# Altium footprint library SM_SUPERSOT-6.PcbLib: 1 footprints
Each footprint in its own frame and in the unit in brackets; x right, y up, seen from the top. Pads: shape width x height; smd on the part's side, far side on the other; paste and mask are expansions set on the pad; w line width, h text height; cw(c..) or ccw(c..) is an arc to the next point about the centre after c.
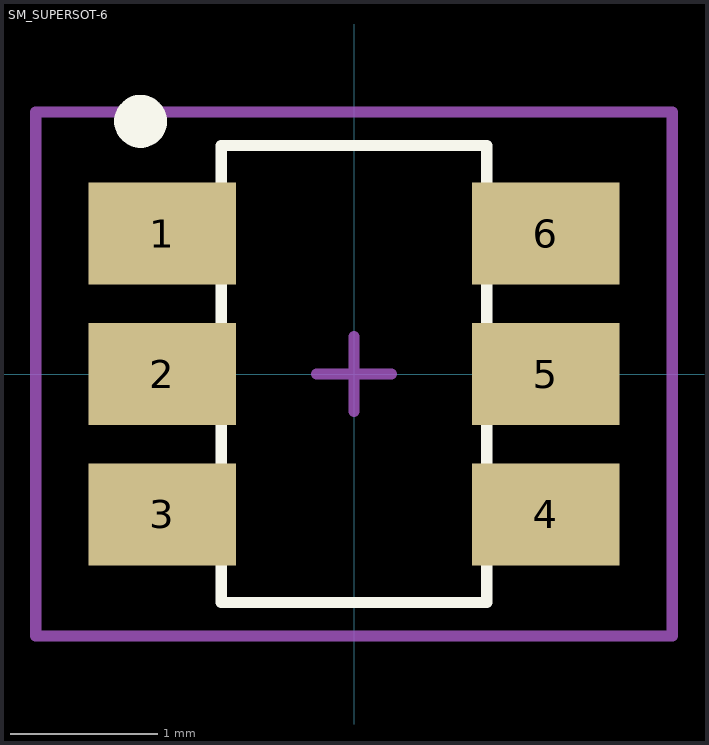
[diagram p0: the footprint, top view; thin cyan lines are the x and y axes]

## SM_SUPERSOT-6 [mm] "SOT23-6 SuperSOT"
pads (6):
  rect 1x0.69 smd: 1(-1.3,0.953) 2(-1.3,0) 3(-1.3,-0.953) 4(1.3,-0.953) 5(1.3,0) 6(1.3,0.953)
Top Overlay:
  circle w0.254: c-1.448,1.714 r0.052
  lines w0.076: -0.9,-1.55 -0.9,1.55 0.9,1.55 0.9,-1.55 -0.9,-1.55
Mechanical 15:
  lines w0.076: -0.254,0 0.254,0 ; 0,-0.254 0,0.254 ; -2.159,-1.778 -2.159,1.778 2.159,1.778 2.159,-1.778 -2.159,-1.778
3D body "User Library-SOT-23-6-1.STEP": height 1.45, standoff -0.01, extent -1.5,-1.5 1.5,1.5